# EAGLE library part 615006138521 (library 615008185221_Eagle_WR-MJ_rev20b)
WR-MJ Modular Jack Vertical Plastic 6P6C w. Ears Kind Properties Quality Class:500 Mating cycles General Information Operating Temperature:-40 up to +85 °C Compliance:RoHS Electrical Properties IR 1:1.5 A Working Voltage:120V (AC) Withstanding Voltage:1000V (AC) Contact Resistance:20mΩ RISO:500 MΩ Material Properties Insulator MateriaL:LCP Insulator Flammability Rating:UL94 V-0 Color:Black Contact Material Copper Alloy Contact Plating: Gold Contact Type:Stamped Packaging Properties Packaging:Tray <https://www.we-online.com/catalog/media/o33118v209%20Family_WR-MJ_615006138521.jpg> Details see: https://www.we-online.com/catalog/en/MJ_VERTICAL_PLASTIC_6P6C_W_EARS/ Updated by Yingchun,Shan 2020-01-07 2020(C) Würth Elektronik
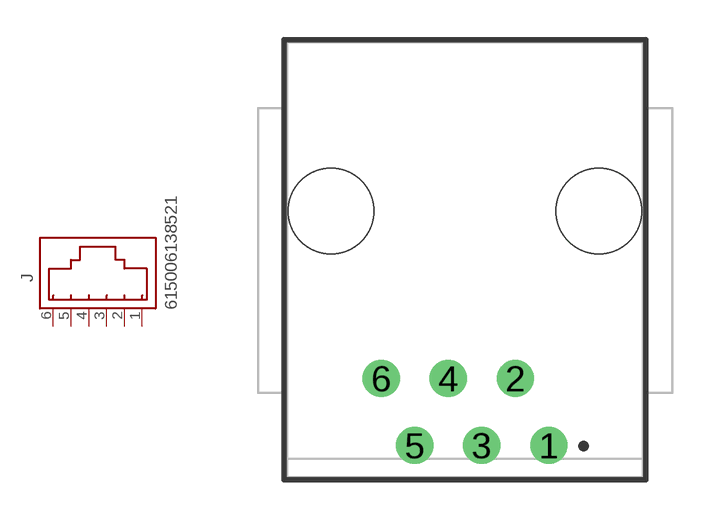
[diagram p19: symbol with the pads of 615006138521; footprint 615006138521]

Designator prefix J

## 615006138521 (DATASHEET-URL: https://www.we-online.com/catalog/datasheet/615006138521.pdf; MOUNT: THT; PART-NUMBER: 615006138521; TYPE: Vertical; VALUE: 615006138521; XPXC: 6P6C)  [615006138521]
1  1  pas
2  2  pas
3  3  pas
4  4  pas
5  5  pas
6  6  pas

## Footprint 615006138521 (pad centres in mm)
WR-MJ Modular Jack Vertical Plastic 6P6C w. Ears, 8 pins
drill 0.9: 1 3.175,-7.04; 2 1.905,-4.5; 3 0.635,-7.04; 4 -0.635,-4.5; 5 -1.905,-7.04; 6 -3.175,-4.5
hole 3.25 at -5.08,1.85
hole 3.25 at 5.08,1.85